# EAGLE library part STM32F405RGT6 (library SobieskiSat2)
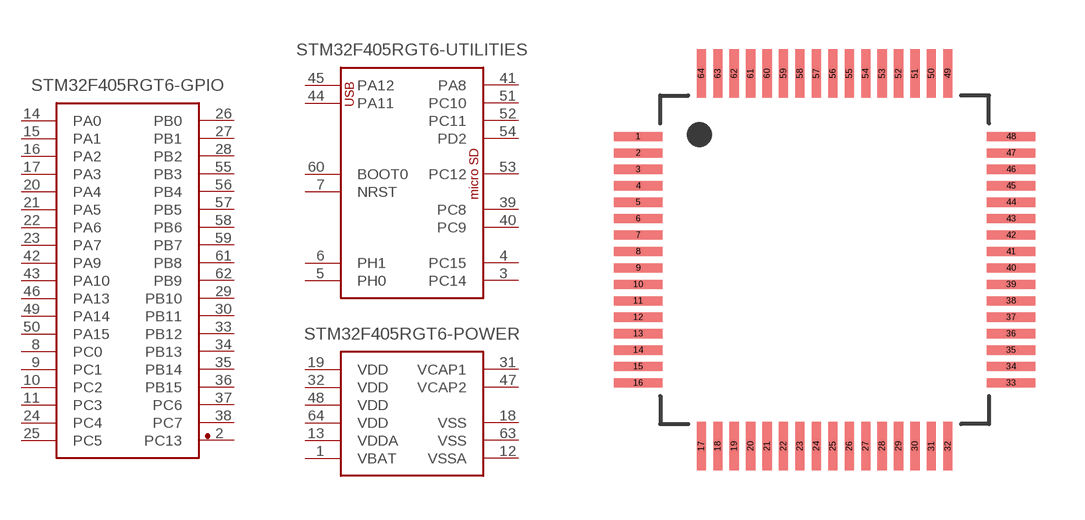
[diagram p0: symbol with the pads of QFP50P1200X1200X160-64N; footprint QFP50P1200X1200X160-64N]

Designator prefix -; gates STM32F405RGT6_GPIO=STM32F405RGT6-GPIO STM32F405RGT6_PWR=STM32F405RGT6-PWR STM32F405RGT6_UTL=STM32F405RGT6-UTL

## STM32F405RGT6  [QFP50P1200X1200X160-64N]
1  STM32F405RGT6_PWR:VBAT
2  STM32F405RGT6_GPIO:PC13
3  STM32F405RGT6_UTL:PC14
4  STM32F405RGT6_UTL:PC15
5  STM32F405RGT6_UTL:PH0
6  STM32F405RGT6_UTL:PH1
7  STM32F405RGT6_UTL:NRST
8  STM32F405RGT6_GPIO:PC0
9  STM32F405RGT6_GPIO:PC1
10  STM32F405RGT6_GPIO:PC2
11  STM32F405RGT6_GPIO:PC3
12  STM32F405RGT6_PWR:VSSA
13  STM32F405RGT6_PWR:VDDA
14  STM32F405RGT6_GPIO:PA0
15  STM32F405RGT6_GPIO:PA1
16  STM32F405RGT6_GPIO:PA2
17  STM32F405RGT6_GPIO:PA3
18  STM32F405RGT6_PWR:VSS
19  STM32F405RGT6_PWR:VDD
20  STM32F405RGT6_GPIO:PA4
21  STM32F405RGT6_GPIO:PA5
22  STM32F405RGT6_GPIO:PA6
23  STM32F405RGT6_GPIO:PA7
24  STM32F405RGT6_GPIO:PC4
25  STM32F405RGT6_GPIO:PC5
26  STM32F405RGT6_GPIO:PB0
27  STM32F405RGT6_GPIO:PB1
28  STM32F405RGT6_GPIO:PB2
29  STM32F405RGT6_GPIO:PB10
30  STM32F405RGT6_GPIO:PB11
31  STM32F405RGT6_PWR:VCAP1
32  STM32F405RGT6_PWR:VDD
33  STM32F405RGT6_GPIO:PB12
34  STM32F405RGT6_GPIO:PB13
35  STM32F405RGT6_GPIO:PB14
36  STM32F405RGT6_GPIO:PB15
37  STM32F405RGT6_GPIO:PC6
38  STM32F405RGT6_GPIO:PC7
39  STM32F405RGT6_UTL:PC8
40  STM32F405RGT6_UTL:PC9
41  STM32F405RGT6_UTL:PA8
42  STM32F405RGT6_GPIO:PA9
43  STM32F405RGT6_GPIO:PA10
44  STM32F405RGT6_UTL:PA11
45  STM32F405RGT6_UTL:PA12
46  STM32F405RGT6_GPIO:PA13
47  STM32F405RGT6_PWR:VCAP2
48  STM32F405RGT6_PWR:VDD
49  STM32F405RGT6_GPIO:PA14
50  STM32F405RGT6_GPIO:PA15
51  STM32F405RGT6_UTL:PC10
52  STM32F405RGT6_UTL:PC11
53  STM32F405RGT6_UTL:PC12
54  STM32F405RGT6_UTL:PD2
55  STM32F405RGT6_GPIO:PB3
56  STM32F405RGT6_GPIO:PB4
57  STM32F405RGT6_GPIO:PB5
58  STM32F405RGT6_GPIO:PB6
59  STM32F405RGT6_GPIO:PB7
60  STM32F405RGT6_UTL:BOOT0
61  STM32F405RGT6_GPIO:PB8
62  STM32F405RGT6_GPIO:PB9
63  STM32F405RGT6_PWR:VSS
64  STM32F405RGT6_PWR:VDD

## Footprint QFP50P1200X1200X160-64N (pad centres in mm)
64-QFP, 0.50 mm pitch, 12.00 mm span, 10.00 X 10.00 X 1.60 mm body 64-pin QFP package with 0.50 mm pitch, 12.00 mm lead span1 X 12.00 mm lead span2 with body size 10.00 X 10.00 X 1.60 mm
smd 1.469 x 0.28: 1 -5.671,3.75; 2 -5.671,3.25; 3 -5.671,2.75; 4 -5.671,2.25; 5 -5.671,1.75; 6 -5.671,1.25; 7 -5.671,0.75; 8 -5.671,0.25; 9 -5.671,-0.25; 10 -5.671,-0.75; 11 -5.671,-1.25; 12 -5.671,-1.75; 13 -5.671,-2.25; 14 -5.671,-2.75; 15 -5.671,-3.25; 16 -5.671,-3.75; 33 5.671,-3.75; 34 5.671,-3.25; 35 5.671,-2.75; 36 5.671,-2.25; 37 5.671,-1.75; 38 5.671,-1.25; 39 5.671,-0.75; 40 5.671,-0.25; 41 5.671,0.25; 42 5.671,0.75; 43 5.671,1.25; 44 5.671,1.75; 45 5.671,2.25; 46 5.671,2.75; 47 5.671,3.25; 48 5.671,3.75
smd 0.28 x 1.469: 17 -3.75,-5.671; 18 -3.25,-5.671; 19 -2.75,-5.671; 20 -2.25,-5.671; 21 -1.75,-5.671; 22 -1.25,-5.671; 23 -0.75,-5.671; 24 -0.25,-5.671; 25 0.25,-5.671; 26 0.75,-5.671; 27 1.25,-5.671; 28 1.75,-5.671; 29 2.25,-5.671; 30 2.75,-5.671; 31 3.25,-5.671; 32 3.75,-5.671; 49 3.75,5.671; 50 3.25,5.671; 51 2.75,5.671; 52 2.25,5.671; 53 1.75,5.671; 54 1.25,5.671; 55 0.75,5.671; 56 0.25,5.671; 57 -0.25,5.671; 58 -0.75,5.671; 59 -1.25,5.671; 60 -1.75,5.671; 61 -2.25,5.671; 62 -2.75,5.671; 63 -3.25,5.671; 64 -3.75,5.671